# EAGLE library part SOIC20WIDE_ATSAMD11D14A-SS (library cube)
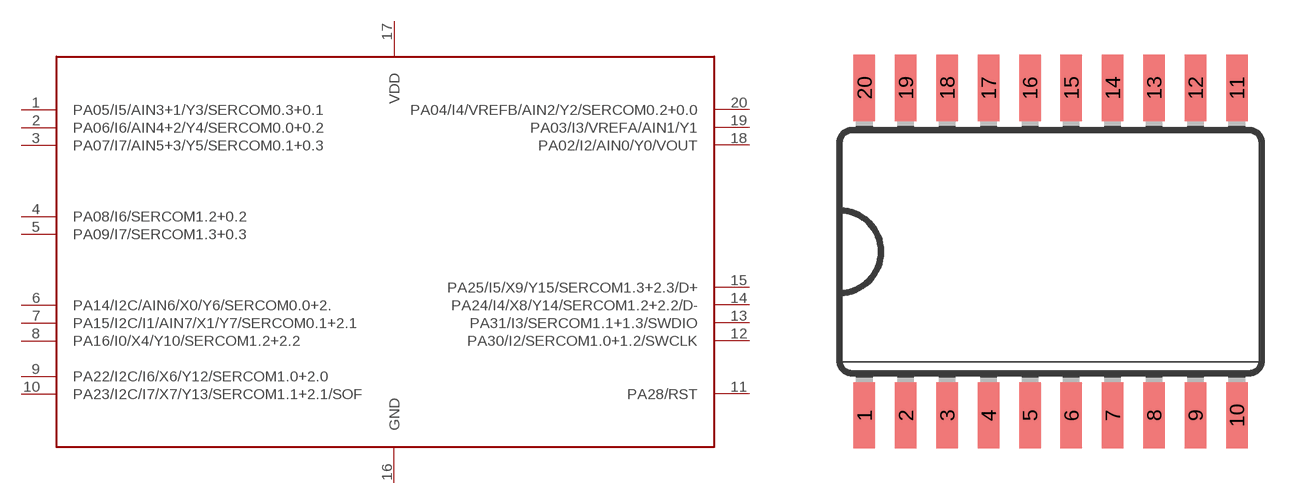
[diagram p0: symbol with the pads of SOIC20WIDE_SOIC20WIDE; footprint SOIC20WIDE_SOIC20WIDE]

Designator prefix -

## SOIC20WIDE_ATSAMD11D14A-SS  [SOIC20WIDE_SOIC20WIDE]
1  PA05/I5/AIN3+1/Y3/SERCOM0.3+0.1
2  PA06/I6/AIN4+2/Y4/SERCOM0.0+0.2
3  PA07/I7/AIN5+3/Y5/SERCOM0.1+0.3
4  PA08/I6/SERCOM1.2+0.2
5  PA09/I7/SERCOM1.3+0.3
6  PA14/I2C/AIN6/X0/Y6/SERCOM0.0+2.
7  PA15/I2C/I1/AIN7/X1/Y7/SERCOM0.1+2.1
8  PA16/I0/X4/Y10/SERCOM1.2+2.2
9  PA22/I2C/I6/X6/Y12/SERCOM1.0+2.0
10  PA23/I2C/I7/X7/Y13/SERCOM1.1+2.1/SOF
11  PA28/RST
12  PA30/I2/SERCOM1.0+1.2/SWCLK
13  PA31/I3/SERCOM1.1+1.3/SWDIO
14  PA24/I4/X8/Y14/SERCOM1.2+2.2/D-
15  PA25/I5/X9/Y15/SERCOM1.3+2.3/D+
16  GND
17  VDD  pwr
18  PA02/I2/AIN0/Y0/VOUT
19  PA03/I3/VREFA/AIN1/Y1
20  PA04/I4/VREFB/AIN2/Y2/SERCOM0.2+0.0

## Footprint SOIC20WIDE_SOIC20WIDE (pad centres in mm)
smd 0.66 x 2.032: 1 -5.715,-5.029; 2 -4.445,-5.029; 3 -3.175,-5.029; 4 -1.905,-5.029; 5 -0.635,-5.029; 6 0.635,-5.029; 7 1.905,-5.029; 8 3.175,-5.029; 9 4.445,-5.029; 10 5.715,-5.029; 11 5.715,5.029; 12 4.445,5.029; 13 3.175,5.029; 14 1.905,5.029; 15 0.635,5.029; 16 -0.635,5.029; 17 -1.905,5.029; 18 -3.175,5.029; 19 -4.445,5.029; 20 -5.715,5.029